# EAGLE library part 1827654-1 (library 1827654-1)
DC Jack Connectors, Board-to-Board, 7 Position, .079 in [2 mm] Centerline, Plug, 30 VDC, Right Angle, Printed Circuit Board, Power & Signal Source: Datasheet <https://www.te.com/commerce/DocumentDelivery/DDEController?Action=showdoc&DocId=Customer Drawing1827654D3pdfEnglishENG_CD_1827654_D3_c-1827654_drw.pdf1827654-1>
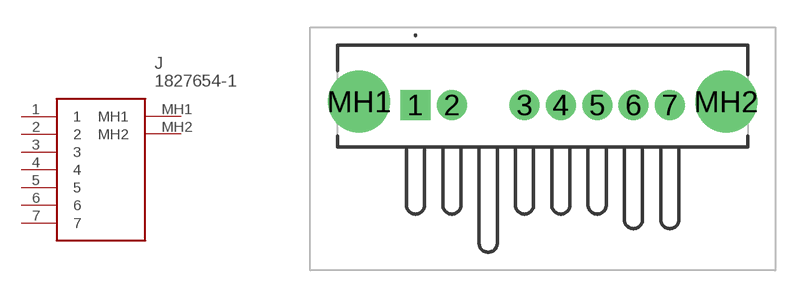
[diagram p0: symbol with the pads of 18276541; footprint 18276541]

Designator prefix J

## 1827654-1 (Arrow_Part_Number: 1827654-1; Arrow_Price-Stock: https://www.arrow.com/en/products/1827654-1/te-connectivity?utm_currency=USD&region=europe; Description: DC Jack Connectors, Board-to-Board, 7 Position, .079 in [2 mm] Centerline, Plug, 30 VDC, Right Angle, Printed Circuit Board, Power & Signal; Height: 4.3mm; Manufacturer_Name: TE Connectivity; Manufacturer_Part_Number: 1827654-1; Mouser_Part_Number: 571-1827654-1; Mouser_Price-Stock: https://www.mouser.co.uk/ProductDetail/TE-Connectivity/1827654-1?qs=y6UIinpTn8hD7CbWsVjTIg%3D%3D)  [18276541]
1  1
2  2
3  3
4  4
5  5
6  6
7  7
MH1  MH1
MH2  MH2

## Footprint 18276541 (pad centres in mm)
1827654-1-2
drill 1.1 pad 1.65 square: 1 0,0
drill 1.1 pad 1.65: 2 2,0; 3 6,0; 4 8,0; 5 10,0; 6 12,0; 7 14,0
drill 2.27 pad 3.405: MH1 -3.1,0.2; MH2 17.1,0.2